# Altium schematic symbol library Schlib1.SchLib: 4 symbols
Pins are listed as number, name and electrical type; pins without a type are passive.

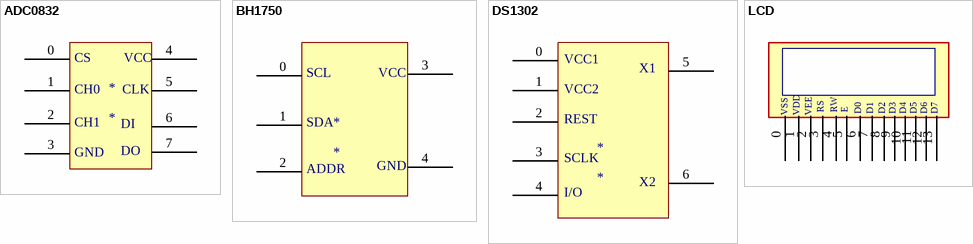
[diagram p0: symbols ADC0832 to LCD]

## ADC0832
designator *
pins: 0, 1, 2, 3, 4, 5, 6, 7
text: CS; VCC; CH0; CLK; CH1; DI; DO; GND

## BH1750
designator *
pins: 0, 1, 2, 3, 4
text: SCL; VCC; SDA; ADDR; GND

## DS1302
designator *
pins: 0, 1, 2, 3, 4, 5, 6
text: VCC1; X1; VCC2; REST; SCLK; X2; I/O

## LCD
designator ?
pins: 0, 1, 2, 3, 4, 5, 6, 7, 8, 9, 10, 11, 12, 13
text: RS; RW; E; VSS; VDD; VEE; D0; D1; D2; D3; D4; D5; D6; D7